# Altium footprint library HeartbeatLibrary.PcbLib: 4 footprints
Each footprint in its own frame and in the unit in brackets; x right, y up, seen from the top. Pads: shape width x height; smd on the part's side, far side on the other; paste and mask are expansions set on the pad; w line width, h text height; cw(c..) or ccw(c..) is an arc to the next point about the centre after c.
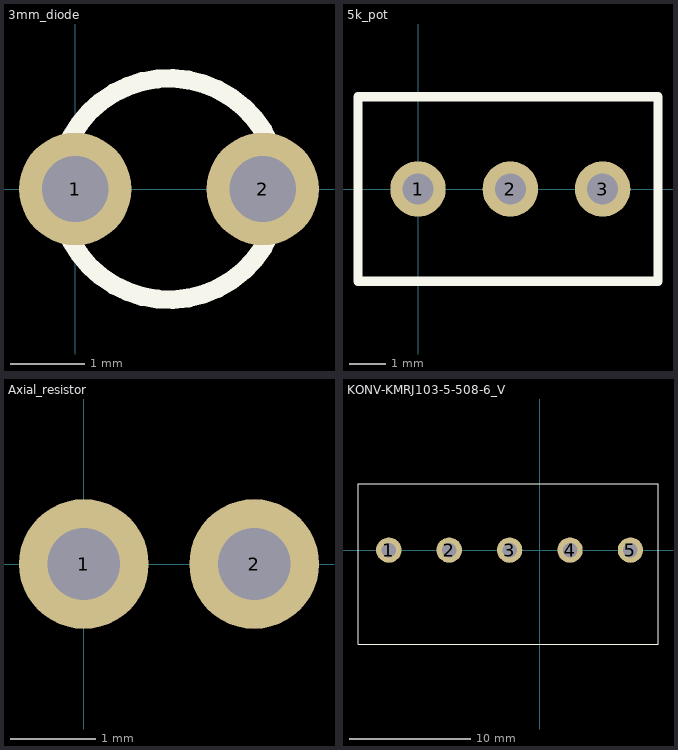
[diagram p0: the footprints below, top view; thin cyan lines are the x and y axes]

## 3mm_diode [mil]
pads (2):
  round 60 hole 35.43: 1(0,0) 2(100,0)
Top Overlay:
  circle w10: c50,0 r59.06

## 5k_pot [mil] "3296W-1-505LF"
pads (3):
  round 60 hole 33.46: 1(0,0) 2(100,0) 3(200,0)
Top Overlay:
  lines w10: -65,-100 -65,0 -65,100 260,100 260,-100 -65,-100

## Axial_resistor [mil] "through-hole"
pads (2):
  round 60 hole 33.46: 1(0,0) 2(78.74,0)

## KONV-KMRJ103-5-508-6_V [mm] "Socket, 6-way, 5.0mm Pitch Terminal Block"
pads (5):
  round 2.1 hole 1.2: 1(-12.5,0) 2(-7.5,0) 3(-2.5,0) 4(2.5,0) 5(7.5,0)
Top Overlay:
  lines w0.1: -15.05,-7.8 -15.05,5.5 9.779,5.5 9.779,-7.8 -15.05,-7.8